# Altium schematic symbol library relay.SchLib: 2 symbols
Pins are listed as number, name and electrical type; pins without a type are passive.

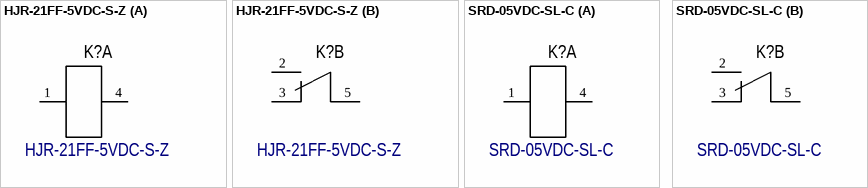
[diagram p0: symbols HJR-21FF-5VDC-S-Z to SRD-05VDC-SL-C]

## HJR-21FF-5VDC-S-Z
designator K?, comment PartNumber: HJR-21FF-5VDC-S-Z  (hidden comment: Relay, Non Latching, SPDT , 10A , (250VAC , 110VDC))
Manufacturer: Tianbo; CurrentMax: 15A; Switching Voltage: (250VAC , 30VDC) Max; Coil Voltage: 5VDC; Art: 8007062022; HelpURL: https://www.chipdip.ru/product0/8007062022; Price ChipDip: 37
footprint HJR-21FF-5VDC-S-Z
part A pins: 1, 4
part B pins: 2, 3, 5

## SRD-05VDC-SL-C
designator K?, comment PartNumber: SRD-05VDC-SL-C  (hidden comment: Relay, Non Latching, SPDT , 10A , (250VAC , 110VDC))
Manufacturer: Ningbo Songle Relay; Switching Voltage: (250VAC , 110VDC) Max; Coil Voltage: 5VDC; HelpURL: https://www.chipdip.ru/product0/8001965486?from=suggest_product; CurrentMax: 10A; Price ChipDip: 160
footprint SRD-05VDC-SL-C
part A pins: 1, 4
part B pins: 2, 3, 5